# Altium footprint library BATTERY.PcbLib: 21 footprints (part 2 of 2)
Each footprint in its own frame and in the unit in brackets; x right, y up, seen from the top. Pads: shape width x height; smd on the part's side, far side on the other; paste and mask are expansions set on the pad; w line width, h text height; cw(c..) or ccw(c..) is an arc to the next point about the centre after c.
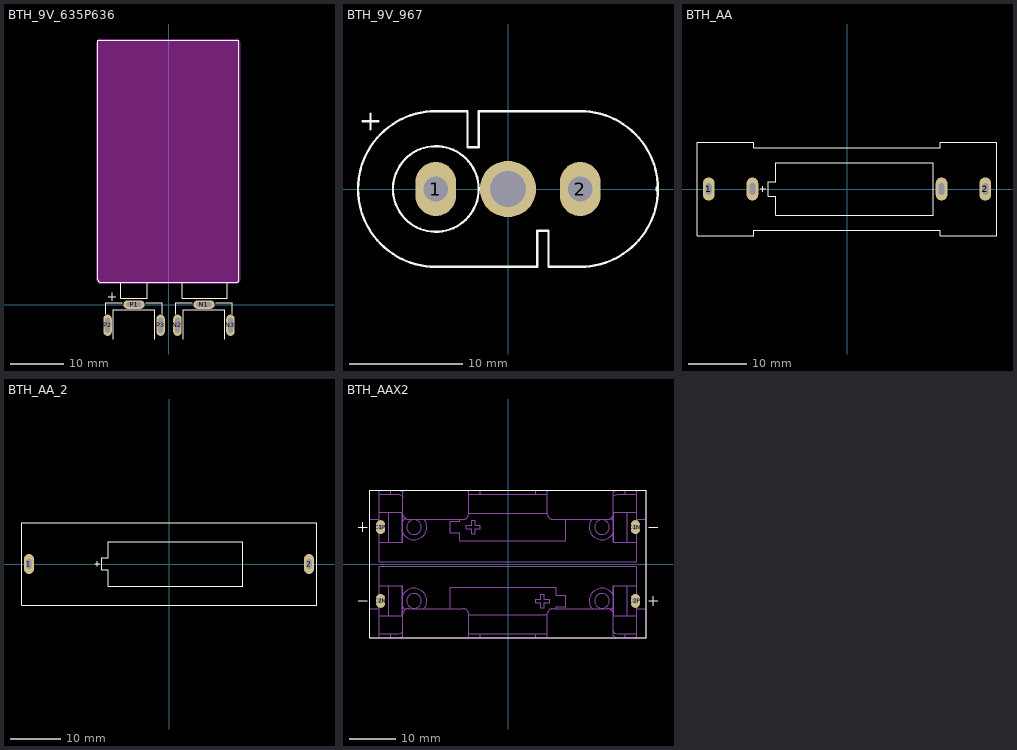
[diagram p1: the footprints below, top view; thin cyan lines are the x and y axes]

## BTH_9V_635P636 [mm] "BATTERY HOLDER, keystone 635, 636"
pads (6):
  oval 4x1.6 hole 0.8 slot 2.8 at 0 deg: N1(6.6,0) P1(-6.6,0)
  oval 1.6x4 hole 0.8 slot 2.8 at 90 deg: N2(1.6,-3.9) N3(11.6,-3.9) P2(-11.6,-3.9) P3(-1.6,-3.9)
Top Overlay:
  lines w0.2: -11.9,-1.8 -11.9,0.3 -8.8,0.3 ; -11.5,1.5 -10,1.5 ; -10.75,0.75 -10.75,2.25 ; -10.5,-6.5 -10.5,-1 -2.7,-1 -2.7,-1.1 -2.7,-6.5 ; -9.1,4.2 -9.1,1.2 -4.1,1.2 -4.1,4.2 ; -4.4,0.3 -1.3,0.3 -1.3,-1.8 ; 1.3,-1.8 1.3,0.3 4.4,0.3 ; 2.5,4.2 2.5,1.2 11,1.2 11,4.2 ; 2.7,-6.5 2.7,-1.1 2.7,-1 10.5,-1 10.5,-6.5 ; 8.8,0.3 11.9,0.3 11.9,-1.8 ; 12.7,4.2 ccw(c12.7,4.7) 13.2,4.7 13.2,49.9 -13.4,49.9 -13.4,4.7 ccw(c-12.9,4.7) -12.9,4.2 12.8,4.2
Keep-Out Layer:
  board cut-out: -13.6,4.7 -13.6,49.4 -13.6,49.469 -13.573,49.604 -13.52,49.732 -13.444,49.846 -13.346,49.944 -13.232,50.02 -13.104,50.073 -12.969,50.1 -12.9,50.1 12.7,50.1 12.769,50.1 12.904,50.073 13.032,50.02 13.146,49.944 13.244,49.846 13.32,49.732 13.373,49.604 13.4,49.469 13.4,49.4 13.4,4.7 13.4,4.631 13.373,4.496 13.32,4.368 13.244,4.254 13.146,4.156 13.032,4.08 12.904,4.027 12.769,4 12.7,4 -12.9,4 -12.969,4 -13.104,4.027 -13.232,4.08 -13.346,4.156 -13.444,4.254 -13.52,4.368 -13.573,4.496 -13.6,4.631
Keep-Out Layer:
  lines w0.2: -13.6,4.7 ccw(c-12.9,4.7) -12.9,4 12.7,4 ccw(c12.7,4.7) 13.4,4.7 13.4,49.4 ccw(c12.7,49.4) 12.7,50.1 -12.9,50.1 ccw(c-12.9,49.4) -13.6,49.4 -13.6,4.7
3D body "keystone-PN636.STEP": height 10.02, standoff -4.21, extent -11.807,-6.5 -1.393,4.036
3D body "keystone-PN635.STEP": height 9.7, standoff -4.52, extent 1.393,-6.487 11.807,3.8
3D body "9V Duracell Battery-1.step": height 13.75, standoff -3.75, extent -13.35,1.3 13.15,49.8

## BTH_9V_967 [mm] "BATTERY HOLDER, keystone 967"
pads (3):
  oval 3.6x4.8 hole 2.2: 1(-6.4,0) 2(6.4,0)
  round 5 hole 3.2 unplated: ""(0,0)
Top Overlay:
  circle w0.2: c-6.4,0 r3.8
  lines w0.2: -12.9,6 -11.5,6 ; -12.2,5.3 -12.2,6.7 ; -2.5,6.9 -2.6,6.9 ; 2.5,-6.9 2.6,-6.9 ; 13.2,-0.1 13.2,0.1 ; -2.6,6.9 6.4,6.9 cw(c6.4,0) 6.4,-6.9 3.6,-6.9 3.6,-3.7 2.6,-3.7 2.6,-6.9 ; -2.6,6.9 -2.6,3.7 -3.6,3.7 -3.6,6.9 -6.4,6.9 ccw(c-6.4,0) -6.4,-6.9 2.6,-6.9
3D body "keystone-PN967.STEP": height 6.19, standoff -2.24, extent -13.189,-6.795 13.1,6.794

## BTH_AA [mm] "Keystone 82"
height 1.8
pads (4):
  oval 2x4 hole 1 slot 2 at 90 deg: 1(-23.7,0) 2(23.7,0) ""(-16.2,0) ""(16.2,0)
Top Overlay:
  lines w0.2: -14.9,0 -13.9,0 ; -14.4,-0.5 -14.4,0.5 ; -25.7,-8 -16,-8 -16,-7.1 16,-7.1 16,-8 25.7,-8 25.7,8 16,8 16,7.1 -16,7.1 -16,8 -25.7,8 -25.7,-8 ; -13.5,-1.2 -13.5,1.2 -12.2,1.2 -12.2,4.5 14.8,4.5 14.8,-4.5 -12.2,-4.5 -12.2,-1.2 -13.5,-1.2
3D body "User Library-BATTERY_AA.SLDPRT": height 16.01, standoff 1.99, extent -24.9,-7.007 24.9,7.008
3D body "User Library-aa smt battery clip-1.SLDPRT": height 16.69, standoff -4.02, extent -25.6,-7.897 -16.075,7.897
3D body "User Library-aa smt battery clip-1.SLDPRT": height 16.69, standoff -4.02, extent 16.075,-7.897 25.6,7.897

## BTH_AA_2 [mm]
height 1.8
pads (2):
  oval 2x4 hole 1 slot 2 at 90 deg: 1(-28,0) 2(28,0)
Top Overlay:
  lines w0.2: -14.9,0 -13.9,0 ; -14.4,-0.5 -14.4,0.5 ; -29.5,-8.3 -29.5,8.3 29.6,8.3 29.6,-8.3 -29.5,-8.3 ; -13.5,-1.2 -12.2,-1.2 -12.2,-4.5 14.8,-4.5 14.8,4.5 -12.2,4.5 -12.2,1.2 -13.5,1.2 -13.5,-1.2
3D body "User Library-BAT_HLDR_BHAA-POL_1_3.sldprt": height 19.92, standoff 0.1, extent -29.428,-8.255 29.5,8.255
3D body "User Library-BAT_HLDR_BHAA-POL_1_2.sldprt": height 18.63, standoff -4.48, extent -28.488,-4.39 -24.8,4.5
3D body "User Library-BAT_HLDR_BHAA-POL_1_2.sldprt": height 18.63, standoff -4.48, extent 24.8,-4.5 28.488,4.39
3D body "User Library-BATTERY_AA.SLDPRT": height 16.01, standoff 1.99, extent -24.9,-7.007 24.9,7.008

## BTH_AAX2 [mm] "2-cell AA battery holder"
height 16.764
pads (4):
  oval 2x3 hole 1.2: C1N(27.6,8) C1P(-27.6,8) C2N(-27.6,-8) C2P(27.6,-8)
Top Overlay:
  lines w0.2: -32.5,-8 -30.5,-8 ; -32.5,8 -30.5,8 ; -31.5,7 -31.5,9 ; 30.5,-8 32.5,-8 ; 30.5,8 32.5,8 ; 31.5,-9 31.5,-7 ; -30,-16 30,-16 30,16 -30,16 -30,-16
Mechanical 13:
  drawing of 198 lines, arcs and shapes, not listed
3D body "2xAA Battery Holder.STEP": height 16.7, standoff -3, extent -30,-16 30,16